# EAGLE library part SHT21 (library SHT21)
Tempsensor RS No: 709-8868 MRF No: TMP112AIDRLT
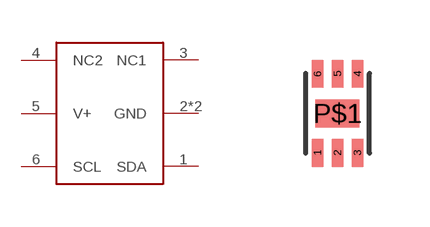
[diagram p0: symbol with the pads of SHT21; footprint SHT21]

Designator prefix -

## SHT21  [SHT21]
1  SDA
2  GND
3  NC1
4  NC2
5  V+
6  SCL
P$1  GND

## Footprint SHT21 (pad centres in mm)
smd 0.28 x 0.7: 1 -0.5,-0.988; 2 0,-0.988; 3 0.5,-0.988; 4 0.5,0.988; 5 0,0.988; 6 -0.5,0.988
smd 1.1 x 0.7: P$1 0,0